# Altium schematic symbol library Nuio_Left_Keyboard_Rev_H.SCHLIB: 69 symbols (part 1 of 2)
Pins are listed as number, name and electrical type; pins without a type are passive.

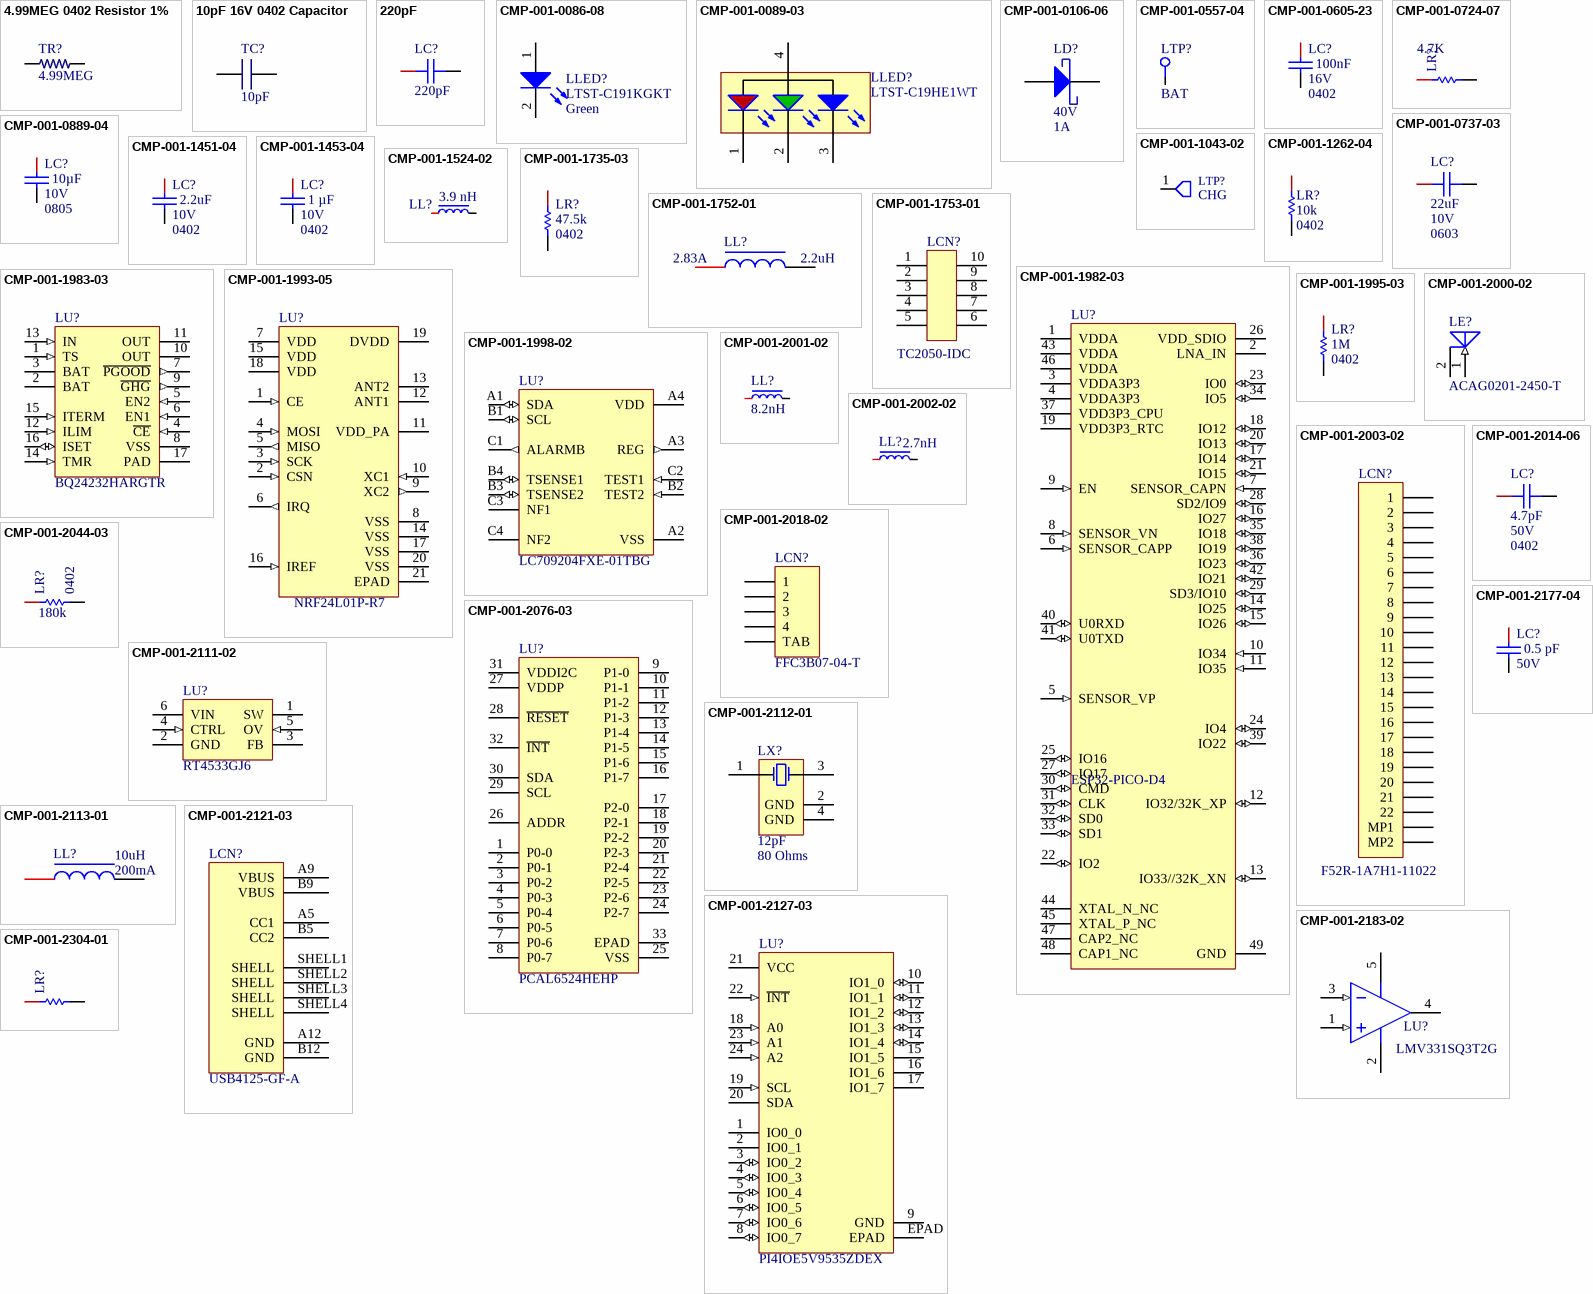
[diagram p0: symbols 4.99MEG 0402 Resistor 1% to CMP-001-2304-01]

## 4.99MEG 0402 Resistor 1%
designator TR?, comment 4.99MEG
4.99MEG 0402 Resistor 1%; Manufacturer: Vishay Dale; Manufacturer Part Number: CRCW04024M99FKEDC; Value: 4.99MR; Max Power Dissipation: 63mW; Temperature Coefficient: 100ppm/°C; Supplier 1: Digikey; RoHS: Yes; Category: Chip SMD Resistors; Stock 1: 96023; Pricing 1: 1=0.1, 10=0.024, 50=0.0152, 100=0.0127, 500=0.00866, 1000=0.00746, 5000=0.00542 (USD); Case/Package: 0402; Case Code (Imperial): 0402; Case Code (Metric): 1005; Min Operating Temperature: -55°C; Max Operating Temperature: 155°C; Packaging: Cut Tape; Tolerance: 1%; Number of Terminations: 2; Series: CRCW-C; RoHS Compliant: Yes; ComponentLink1URL: http://www.vishay.com/docs/28773/crcwce3.pdf?src-supplier=Digikey; ComponentLink1Description: http://www.vishay.com/docs/28773/crcwce3.pdf?src-supplier=Digikey; ComponentLink2URL: https://datasheet.octopart.com/CRCW04024M99FKEDC-Vishay-datasheet-102570912.pdf?src-supplier=Future+Electronics; ComponentLink2Description: https://datasheet.octopart.com/CRCW04024M99FKEDC-Vishay-datasheet-102570912.pdf?src-supplier=Future+Electronics; Supplier Part Number 1: 541-4110-1-ND
footprint RESC0402(1005)_L (Chip Resistor, Body 1.0x0.5mm, IPC High Density)
pins: 1, 2

## 10pF 16V 0402 Capacitor
designator TC?, comment 10pF
10pF 16V 0402 Capacitor; Manufacturer 1: Kemet; Manufacturer Part Number 1: C0402C100K4GACTU; Tolerance: ±10%; Temperature Coefficient: C0G, NP0; Supplier 1: Digi-Key; RoHS: RoHS Compliant; Category: Capacitors; Stock 1: 20000; Pricing 1: 10000=0.0525, 20000=0.0498, 30000=0.048, 50000=0.045, 100000=0.03975 (USD); Packaging: Tape & Reel (TR); Capacitance: 10pF; Voltage - Rated: 16V; Mounting Type: Surface Mount, MLCC; Operating Temperature: -55°C ~ 125°C; Applications: General Purpose; Ratings: -; Package / Case: 0402 (1005 Metric); Size / Dimension: 0.039" L x 0.020" W (1.00mm x 0.50mm); Height - Seated (Max): -; Thickness (Max): 0.022" (0.55mm); Lead Spacing: -; Features: -; Lead Style: -; ComponentLink1URL: http://www.kemet.com/datasheets&C0402C100K4GACTU; ComponentLink1Description: http://www.kemet.com/datasheets&C0402C100K4GACTU; Supplier Part Number 1: 399-11110-2-ND
footprint CAPC0402(1005)_L (Chip Capacitor, Body 1.0x0.5mm, Height 0.7mm, IPC High Density)
pins: 1, 2

## 220pF
designator LC?
220pF 25V 0402 Capacitor; Manufacturer 1: Cal-Chip Electronics; Manufacturer Part Number 1: GMC04CG221J25NT; Description: GMC04CG221J25NT Cal-Chip Capacitor General Use MLCC SMD 0402 COG 220PF 5% 25V; Supplier 1: DigiKey; RoHS: Yes; Stock 1: 10000; Pricing 1: 1=0.1, 10=0.021, 50=0.0144, 100=0.0122, 500=0.00852, 1000=0.00739, 2500=0.0062, 5000=0.00549 (USD); RoHS Compliant: Yes; Supplier Part Number 1: 4713-GMC04CG221J25NTCT-ND
footprint CAPC0402(1005)_L (Chip Capacitor, Body 1.0x0.5mm, Height 0.7mm, IPC High Density)
footprint CAPC0402(1005)_M (Chip Capacitor, Body 1.0x0.5mm, Height 0.7mm, IPC Low Density)
footprint CAPC0402(1005)_N (Chip Capacitor, Body 1.0x0.5mm, Height 0.7mm, IPC Medium Density)
pins: 1, 2
1 alternate drawing of the same symbol

## CMP-001-0086-08
designator LLED?, comment Color: Green  (hidden comment: LTST-C191KGKT)
LED GREEN CLEAR THIN 0603 SMD; Manufacturer: Lite-On Inc; Lens Style/Size: Rectangle with Flat Top, 1.1mm x 0.8mm; Voltage - Forward (Vf) (Typ): 2V; Millicandela Rating: 35mcd; Viewing Angle: 130°; Wavelength - Dominant: 571nm; Wavelength - Peak: 574nm; Current - Test: 20mA; Pin Count: 2; Packaging: Cut Tape (CT); Size / Dimension: 1.60mm L x 0.80mm W; Package / Case: 0603 (1608 Metric); ClassName: *; Mounting Type: Surface Mount; Lens Type: Clear; RoHS: RoHS Compliant; Height: 0.55mm; Pricing 1: 1=0.3, 10=0.238, 100=0.1296, 250=0.0864, 500=0.07344, 1000=0.05616, 2500=0.05076 (USD); Stock 1: 84829; Manufacturer Part Number: LTST-C191KGKT
footprint SM-LED-0603 (0603 LED)
pins: 1 A, 2 K

## CMP-001-0089-03
designator LLED?, comment LTST-C19HE1WT
LED RGB 605/525/470NM DIFF SMD; Manufacturer: Lite-On Inc.; Voltage - Forward (Vf) (Typ): 2.1V Red, 3.35V Green, 3.35V Blue; Lens Style/Size: Rectangle with Flat Top, 1.15mm x 1.60mm; Lens Color: White; Current - Test: 20mA Red, 20mA Green, 20mA Blue; Millicandela Rating: 112.5mcd Red, 281mcd Green, 104mcd Blue; Lens Transparency: Diffused; Wavelength - Dominant: 624nm Red, 525nm Green, 470nm Blue; Wavelength - Peak: 632nm Red, 520nm Green, 468nm Blue; Viewing Angle: 130°; Pin Count: 4; Stock 1: 369310; Mounting Type: Surface Mount; Size / Dimension: 1.60mm L x 1.60mm W; ComponentLink1URL: http://optoelectronics.liteon.com/upload/download/DS22-2008-0044/S_110_LTST-C19HE1WT.pdf; Manufacturer Part Number: LTST-C19HE1WT; RoHS: RoHS Compliant; Part Status: Active; ComponentLink1Description: http://optoelectronics.liteon.com/upload/download/DS22-2008-0044/S_110_LTST-C19HE1WT.pdf; Package / Case: 0606 (1616 Metric); Pricing 1: 1=0.59, 10=0.424, 25=0.3464, 100=0.277, 250=0.23372, 500=0.19912, 1000=0.15583 (USD); Height (Max): 0.35mm; Supplier Device Package: *; Color: Red, Green, Blue (RGB); Features: -; Packaging: Cut Tape (CT); Component Name: LTST-C19HE1WT
footprint LTST-C19HE1WT (low-cost low-height RGB LED)
pins: 1 R, 2 G, 3 B, 4 Anode

## CMP-001-0106-06
designator LD?, comment DC Reverse Voltage Max: 40V  Current Avg Rectified: 1A  (hidden comment: PMEG4010AESBYL)
DIODE SCHOTTKY 40V 1A SOD993; Voltage Forward Max: 505mV @ 1A; Diode Type: Schottky
footprint PMEG4010AESBYL-Footprint-1
pins: 1 K, 2 A

## CMP-001-0557-04
designator LTP?, comment BAT  (no BOM)
Test Point- Current one
footprint Pogo-Testpoint (Test Point - Top Pad Only)
pins: 1

## CMP-001-0605-23
designator LC?, comment Package (Imperial): 0402  Voltage (Rated): 16V  Capacitance: 100nF  (hidden comment: CAP CER 0.1UF 16V X5R 0402)
±10% 16V Ceramic Capacitor X5R 0402 (1005 Metric); Manufacturer: Taiyo Yuden; Manufacturer Part Number: EMK105BJ104KV-F; Package (Metric): 1005; Temperature (Max): 85°C; Temperature (Min): -55°C; Height: 550µm; Supplier: Digi-Key; Supplier Part Number: 587-1226-1-ND; Tolerance: 10%; Dielectric Material: Ceramic; Temperature Coefficient: X5R; Width: 500µm; Length: 1mm; Mounting Type: SMD
footprint CAPC0402(1005)_L (Chip Capacitor, Body 1.0x0.5mm, Height 0.7mm, IPC High Density)
footprint CAPC0402(1005)_M (Chip Capacitor, Body 1.0x0.5mm, Height 0.7mm, IPC Low Density)
footprint CAPC0402(1005)_N (Chip Capacitor, Body 1.0x0.5mm, Height 0.7mm, IPC Medium Density)
pins: 1, 2

## CMP-001-0724-07
designator LR?, comment 4.7K
SMD Chip Resistor, 4.7 kOhm, ± 1%, 62.5 mW, 0402 [1005 Metric], Thick Film, General Purpose; Manufacturer 1: Yageo; Manufacturer Part Number 1: RC0402FR-074K7L; Voltage Rating (DC): 50V; Power Rating: 62.5mW; Value: 4.7kR; Temperature Coefficient: 100ppm/°C; Max Power Dissipation: 63mW; Supplier 1: Digikey; RoHS: Yes; Category: Chip SMD Resistors; Stock 1: 6013334; Pricing 1: 1=0.1, 10=0.015, 50=0.0088, 100=0.0073, 500=0.00488, 1000=0.00417, 5000=0.00297 (USD); Case/Package: 0402; Pins: 2; Case Code (Imperial): 0402; Case Code (Metric): 1005; Min Operating Temperature: -55°C; Max Operating Temperature: 155°C; Tolerance: 1%; Voltage Rating: 50V; Packaging: Tape and Reel; Resistor Type: Thick Film; Termination: SMD/SMT; Features: Moisture Resistant; Series: RC; Number of Terminations: 2; Resistance Tolerance: 1%; Construction: Rectangular; Length: 1mm; Width: 0.5mm; Depth: 0.5mm; Reach SVHC Compliant: No; Military Standard: Not; Lead Free: Lead Free; RoHS Compliant: Yes; ComponentLink1URL: https://datasheet.ciiva.com/15215/getdatasheetpartid-328119-15215035.pdf?src-supplier=Verical; ComponentLink1Description: https://datasheet.ciiva.com/15215/getdatasheetpartid-328119-15215035.pdf?src-supplier=Verical; ComponentLink2URL: https://datasheet.ciiva.com/7850/1018594-7850022.pdf?src-supplier=Element14; ComponentLink2Description: https://datasheet.ciiva.com/7850/1018594-7850022.pdf?src-supplier=Element14; ComponentLink3URL: https://datasheet.ciiva.com/7850/1018594-7850023.pdf?src-supplier=Element14; ComponentLink3Description: https://datasheet.ciiva.com/7850/1018594-7850023.pdf?src-supplier=Element14; ComponentLink4URL: https://datasheet.ciiva.com/22661/1686128-22661342.pdf?src-supplier=Element14; ComponentLink4Description: https://datasheet.ciiva.com/22661/1686128-22661342.pdf?src-supplier=Element14; Supplier Part Number 1: 311-4.7KLRCT-ND
footprint RESC0402(1005)_L (Chip Resistor, Body 1.0x0.5mm, IPC High Density)
footprint RESC0402(1005)_N (Chip Resistor, Body 1.0x0.5mm, IPC Medium Density)
footprint RESC0402(1005)_M (Chip Resistor, Body 1.0x0.5mm, IPC Low Density)
pins: 1, 2

## CMP-001-0737-03
designator LC?, comment 22uF  Voltage Rating (DC): 10V  Case Code (Imperial): 0603
CAP CER 22UF 10V 20% 0603; Dielectric: X5R; Max Operating Temperature: 85°C; Termination: SMD/SMT; Case Code (Metric): 1608; Width: 0.8mm; Length: 1.6mm; Packaging: Tape and Reel; Capacitance: 22uF; Tolerance: 20%; Mount: Surface Mount; Weight: 0.000222oz; Package Quantity: 4000; Min Operating Temperature: -55°C; Lead Free: Lead Free; REACH SVHC: No SVHC; Thickness: 0.039inch; Depth: 0.8mm; Voltage Rating: 10V; Material: Ceramic; Height: 0.8mm; Case/Package: 0603
footprint CAPC0603(1608)_M (Chip Capacitor, Body 1.6x0.8mm, Height 1.0mm, IPC Low Density)
footprint CAPC0603(1608)_N (Chip Capacitor, Body 1.6x0.8mm, Height 1.0mm, IPC Medium Density)
footprint CAPC0603(1608)_L (Chip Capacitor, Body 1.6x0.8mm, Height 1.0mm, IPC High Density)
pins: 1, 2
1 alternate drawing of the same symbol

## CMP-001-0889-04
designator LC?, comment Voltage (Rated): 10V  Package (Imperial): 0805  Capacitance: 10µF  (hidden comment: CAP CER 10UF 10V X7R 0805)
10µF ±10% 10V Ceramic Capacitor X7R 0805 (2012 Metric); Manufacturer Part Number: GRM21BR71A106KA73K; Package (Metric): 2012; Voltage Rating: 10V; Length: 2mm; Mounting Type: SMD; Height: 1.4mm; Mount: Surface Mount; Case Code (Metric): 2012; Min Operating Temperature: -55°C; Ratings: AEC-Q200; Width: 1.25mm; Packaging: Tape and Reel; Tolerance: 10%; Temperature Coefficient: X7R; Case Code (Imperial): 0805; Max Operating Temperature: 125°C; Case/Package: 0805; Dielectric Material: Ceramic
footprint CAPC0805(2012)_L_v2 (Chip Capacitor, Body 2.0x1.2mm, Height 1.55mm, IPC High Density)
footprint CAPC0805(2012)_L (Chip Capacitor, Body 2.0x1.2mm, Height 1.55mm, IPC High Density)
pins: 1, 2

## CMP-001-1043-02
designator LTP?, comment CHG  (no BOM)
MTK-TP20MIL
footprint MTK-TESTPOINT-20
pins: 1 TP

## CMP-001-1262-04
designator LR?, comment Resistance: 10k  Package (Imperial): 0402  (hidden comment: RES SMD 10K OHM 1% 1/16W 0402)
10 kOhms ±1% 0.063W, 1/16W Chip Resistor 0402 (1005 Metric) Anti-Sulfur, Automotive AEC-Q200, Moisture Resistant Thin Film; Manufacturer: Yageo; Manufacturer Part Number: AT0402FRE0710KL; Max Power Dissipation: 63mW; Temperature Coefficient: 50ppm/°C; Width: 0.02inch; Case Code (Metric): 1005; Height: 0.014inch; Min Operating Temperature: -55°C; Supplier: Digi-Key; Tolerance: 1%; Features: Moisture Resistant,Automotive AEC-Q200,Anti-Sulfur; Length: 0.039inch; Number of Terminations: 2; Case/Package: 0402; Packaging: Tape and Reel; Composition: Thin Film; Supplier Part Number: YAG2104CT-ND; Max Operating Temperature: 155°C
footprint RESC0402_YAGEO (Chip Resistor, Body 1.0x0.5mm, IPC High Density)
pins: 1, 2

## CMP-001-1451-04
designator LC?, comment Package (Imperial): 0402  Voltage (Rated): 10V  Capacitance: 2.2uF  (hidden comment: CAP CER 2.2UF 10V X5R 0402)
±20% 10V Ceramic Capacitor X5R 0402 (1005 Metric); Manufacturer: KEMET; Manufacturer Part Number: C0402C225M8PACTU; Width: 0.5mm; Height: 0.5mm; Tolerance: 20%; Voltage Rating (DC): 10V; Supplier: Digi-Key; Depth: 0.5mm; Dielectric: X5R; Supplier Part Number: 399-7375-1-ND; Contact Plating: Tin,Matte; Termination: SMD/SMT; Thickness: 0.022inch; Dielectric Material: Ceramic; Temperature Coefficient: X5R; Length: 1mm; Max Operating Temperature: 85°C; Min Operating Temperature: -55°C; Mount: Surface Mount; Lead Free: Lead Free; Series: C
footprint CAPC0402(1005)_L (Chip Capacitor, Body 1.0x0.5mm, Height 0.7mm, IPC High Density)
pins: 1, 2

## CMP-001-1453-04
designator LC?, comment Package (Imperial): 0402  Voltage (Rated): 10V  Capacitance: 1 µF  (hidden comment: CAP CER 1UF 10V X5R 0402)
±20% 10V Ceramic Capacitor X5R 0402 (1005 Metric); Manufacturer Part Number: CC0402MRX5R6BB105; Manufacturer: Yageo; Supplier: Digi-Key; Tolerance: ±20%; Supplier Part Number: 311-1732-1-ND; Temperature Coefficient: X5R; Height: 0.55mm
footprint CAPC0402(1005)_L (Chip Capacitor, Body 1.0x0.5mm, Height 0.7mm, IPC High Density)
pins: 1, 2

## CMP-001-1524-02
designator LL?, comment Inductance: 3.9 nH  (hidden comment: FIXED IND 3.9NH 0402)
Inductor RF Chip 0.0039uH 0.1nH 100MHz 8Q-Factor Air 0.75A 0.14Ohm DCR 0402 T/R; Manufacturer Part Number: Murata Electronics; Manufacturer: LQG15HS3N9B02D; Current: 750 mA; DC Resistance (DCR): 140mOhm Max; Inductance Frequency: 100 MHz; Tolerance: ±0.1nH; Height: 0.55mm; Package: 0402 (1005 Metric); RoHS Compliant: Yes; Size / Dimension: 0.039" L x 0.020" W (1.00mm x 0.50mm)
footprint FP-LQG15HH_02-IPC_C
pins: 1, 2

## CMP-001-1735-03
designator LR?, comment Resistance: 47.5k  Package (Imperial): 0402  (hidden comment: RES 47.5K OHM 1% 1/16W 0402)
47.5 kOhms ±1% 0.063W, 1/16W Chip Resistor 0402 (1005 Metric) Moisture Resistant Thick Film; Manufacturer: Panasonic Electronic Components; Manufacturer Part Number: ERA-2ARB6041X; Temperature Coefficient: 100ppm/°C; Max Power Dissipation: 63mW; Power Rating: 62.5mW; Voltage Rating: 50V; Case Code (Metric): 1005; Min Operating Temperature: -55°C; Resistance Tolerance: 1%; Width: 0.02inch; REACH SVHC: No SVHC; Case/Package: 0402; Size Code: 0402; Depth: 0.5mm; Series: RC; Number of Terminations: 2; Packaging: Tape and Reel; Termination: SMD/SMT; Case Code (Imperial): 0402; Resistor Type: Thick Film; Tolerance: 1%; Height: 0.016inch; Construction: Rectangular; Lead Free: Lead Free; Features: Moisture Resistant; Length: 1mm; Military Standard: Not; Voltage Rating (DC): 50V; Max Operating Temperature: 155°C; RoHS Compliant: Yes; Composition: Thin Film
footprint RESC0402(1005)_L (Chip Resistor, Body 1.0x0.5mm, IPC High Density)
pins: 1, 2

## CMP-001-1752-01
designator LL?, comment Inductance: 2.2uH  Current Rating (Amps): 2.83A  (hidden comment: FIXED IND 2.2UH 2.83A 74MOHM SMD)
2.2 µH Shielded Wirewound Inductor 2.83 A 74mOhm Max Nonstandard -; Manufacturer Product Number: VLS3012CX-2R2M-1; Manufacturer: TDK Corporation; Inductance Frequency - Test: 1MHz; Size / Dimension: 3mm x 3mm; DC Resistance (DCR): 74mOhm Max; Mounting Type: Surface Mount; RoHS Compliant: Yes
footprint FIXED IND 2.2UH 2.83A 74MOHM SMD
pins: 1, 2
1 alternate drawing of the same symbol

## CMP-001-1753-01
designator LCN?, comment TC2050-IDC  (no BOM)
Adapter Cbl Plug Of Nails 10PIN; Package Quantity: 1; Series: Plug-Of-Nails™; RoHS Compliant: Yes
footprint TC2050-IDC (Tag-Connect 10-Pin (With Legs))
pins: 1, 2, 3, 4, 5, 6, 7, 8, 9, 10

## CMP-001-1982-03
designator LU?, comment ESP32-PICO-D4
SoC RF SIP Module Dual Core MCU 2, 4GHz; Manufacturer 1: Espressif Systems; Interface: I2C,SPI,I2S,UART; Data Rate: 150Mbps; Sensitivity: -97dBm; Memory Size: 4MB; Memory Format: FLASH; Operating Frequency: 2.4 GHz to 2.5 GHz; Output Power (dBm): 20dBm; Operating Supply Voltage: 3.6V; RAM Size: 520KB; Data Bus Width: 32b; Clock Frequency: 40MHz; Number of ADC Channels: 10; Bandwidth: 72MHz; Min Supply Voltage: 2.7V; Nominal Supply Current: 80mA; Number of GPIO: 22; Supplier 1: Digikey; Manufacturer Part Number 1: ESP32-PICO-D4; RoHS: No; Category: RF Receivers, Transceivers; Stock 1: 3196; Pricing 1: 1=4.5 (USD); Case/Package: QFN; Min Operating Temperature: -40°C; Max Operating Temperature: 85°C; Series: ESP32; Package Quantity: 2000; Max Supply Voltage: 3.6V; Length: 7mm; Width: 7mm; Height: 0.94mm; ComponentLink1URL: https://www.espressif.com/sites/default/files/documentation/esp32-pico-d4_datasheet_en.pdf?src-supplier=Digikey; ComponentLink1Description: https://www.espressif.com/sites/default/files/documentation/esp32-pico-d4_datasheet_en.pdf?src-supplier=Digikey; ComponentLink2URL: https://datasheet.octopart.com/ESP32-PICO-D4-Espressif-Systems-datasheet-165560559.pdf?src-supplier=TME; ComponentLink2Description: https://datasheet.octopart.com/ESP32-PICO-D4-Espressif-Systems-datasheet-165560559.pdf?src-supplier=TME; Supplier Part Number 1: 1904-1029-1-ND
footprint ESP32-PICO-D4
pins: 1 VDDA (power), 2 LNA_IN, 3 VDDA3P3 (power), 4 VDDA3P3 (power), 5 SENSOR_VP (in), 6 SENSOR_CAPP (in), 7 SENSOR_CAPN (in), 8 SENSOR_VN (in), 9 EN (in), 10 IO34 (in), 11 IO35 (in), 12 IO32/32K_XP (io), 13 IO33//32K_XN (io), 14 IO25 (io), 15 IO26 (io), 16 IO27 (io), 17 IO14 (io), 18 IO12 (io), 19 VDD3P3_RTC, 20 IO13 (io), 21 IO15 (io), 22 IO2 (io), 23 IO0 (io), 24 IO4 (io), 25 IO16 (io), 26 VDD_SDIO (power), 27 IO17 (io), 28 SD2/IO9 (io), 29 SD3/IO10 (io), 30 CMD (io), 31 CLK (io), 32 SD0 (io), 33 SD1 (io), 34 IO5 (io), 35 IO18 (io), 36 IO23 (io), 37 VDD3P3_CPU (power), 38 IO19 (io), 39 IO22 (io), 40 U0RXD (io), 41 U0TXD (io), 42 IO21 (io), 43 VDDA (power), 44 XTAL_N_NC, 45 XTAL_P_NC, 46 VDDA (power), 47 CAP2_NC, 48 CAP1_NC, 49 GND (power)

## CMP-001-1983-03
designator LU?, comment BQ24232HARGTR
USB Friendly 0.5A Li-ion charger with power-Path, 10.5V OVP 16-VQFN -5 to 125; Manufacturer 1: Texas Instruments; Number of Cells: 1; Fault Protection: Over Voltage,Over Temperature,Short Circuit,Reverse Current; Max Charge Current: 500mA; Battery Pack Voltage: 4.2V; Max Supply Voltage: 10.2V; Battery Chemistry: LITHIUM-ION; Supplier 1: Digikey; Manufacturer Part Number 1: BQ24232HARGTR; RoHS: Yes; Category: Battery Management; Stock 1: 10178; Pricing 1: 1=2.63, 10=2.361, 25=2.2272, 100=1.8974, 250=1.78164, 500=1.55894, 1000=1.29169 (USD); Mounting Technology: Surface Mount; Case/Package: QFN; Min Operating Temperature: -5°C; Max Operating Temperature: 125°C; Interface: USB; Packaging: Cut Tape; Series: -; Lead Free: Lead Free; RoHS Compliant: Yes; ComponentLink1URL: http://www.ti.com/lit/ds/symlink/bq24232ha.pdf?src-supplier=Digikey; ComponentLink1Description: http://www.ti.com/lit/ds/symlink/bq24232ha.pdf?src-supplier=Digikey; ComponentLink2URL: http://www.ti.com/general/docs/suppproductinfo.tsp?distId=10&amp;gotoUrl=http%3A%2F%2Fwww.ti.com%2Flit%2Fgpn%2Fbq24232ha&src-supplier=Digikey; ComponentLink2Description: http://www.ti.com/general/docs/suppproductinfo.tsp?distId=10&amp;gotoUrl=http%3A%2F%2Fwww.ti.com%2Flit%2Fgpn%2Fbq24232ha&src-supplier=Digikey; Supplier Part Number 1: 296-49554-1-ND
footprint BQ24232HARGTR
pins: 1 TS (in), 2 BAT, 3 BAT, 4 ~{CE} (in), 5 EN2 (in), 6 EN1 (in), 7 ~{PGOOD} (out), 8 VSS, 9 ~{GHG} (out), 10 OUT, 11 OUT, 12 ILIM (in), 13 IN (in), 14 TMR (in), 15 ITERM (in), 16 ISET (io), 17 PAD

## CMP-001-1993-05
designator LU?, comment NRF24L01P-R7
IC RF TXRX ISM>1GHZ 20VFQFN; Manufacturer: Nordic Semiconductor ASA; Frequency: 2.4GHz; Max Supply Voltage: 3.6V; Current - Receiving: 13.5mA; Current - Transmitting: 11.3mA; Data Rate: 2Mbps; Output Power (dBm): 0dBm; Interface: SPI; Sensitivity: -94dBm; Length: 4mm; Packaging: Tape and Reel; Series: -; Case/Package: QFN; Package Quantity: 1500; Depth: 4mm; Min Operating Temperature: -40°C; Manufacturer Part Number: NRF24L01P-R7; Mount: Surface Mount; Max Operating Temperature: 85°C
footprint QFN50P400X400X95_HS-21N (QFN, 20-Leads, Body 4.00x4.00mm, Pitch 0.50mm, Thermal Pad 2.60x2.60mm, IPC Medium Density)
pins: 1 CE (in), 2 CSN (in), 3 SCK (in), 4 MOSI (in), 5 MISO (out), 6 IRQ (out), 7 VDD (power), 8 VSS (power), 9 XC2 (out), 10 XC1 (in), 11 VDD_PA (power), 12 ANT1, 13 ANT2, 14 VSS (power), 15 VDD (power), 16 IREF (in), 17 VSS (power), 18 VDD (power), 19 DVDD (power), 20 VSS (power), 21 EPAD (power)

## CMP-001-1995-03
designator LR?, comment Resistance: 1M  Case/Package: 0402  (hidden comment: RES 1M OHM 1% 1/16W 0402)
1 MOhms ±1% 0.063W, 1/16W Chip Resistor 0402 (1005 Metric) Moisture Resistant Thick Film; Manufacturer: YAGEO; Manufacturer Part Number: RC0402FR-071ML; Power Rating: 63mW; Voltage Rating: 50V; Temperature Coefficient: 100ppm/°C; Termination: SMD/SMT; Technology: THICK FILM; Features: Moisture Resistant; Depth: 0.5mm; RoHS Compliant: Yes; Military Standard: Not; Series: RC; Construction: Rectangular; Resistance Tolerance: 1%; Size Code: 0402; Length: 1mm; Resistor Type: Thick Film; Min Operating Temperature: -55°C; Max Power Dissipation: 63mW; Height: 0.32mm; Lead Free: Lead Free; Max Operating Temperature: 155°C; Tolerance: 1%; REACH SVHC: Unknown
footprint RESC0402(1005)_L (Chip Resistor, Body 1.0x0.5mm, IPC High Density)
pins: 1, 2

## CMP-001-1998-02
designator LU?, comment LC709204FXE-01TBG
IC FUEL GAUGE LI-ION 1C 12WLCSP; Manufacturer: onsemi; Number of Cells: 1; Interface: I2C; Manufacturer Part Number: LC709204FXE-01TBG; Mount: Surface Mount; Min Operating Temperature: -40°C; Max Operating Temperature: 85°C
footprint BGA12C40P4X3_191X148X51 (BGA, 12-Leads, Body 1.91x1.48mmx0.51mm, Pitch 0.40mm)
pins: A1 SDA (io), A2 VSS (power), A3 REG (out), A4 VDD (power), B1 SCL (io), B2 TEST2 (in), B3 TSENSE2 (io), B4 TSENSE1 (io), C1 ALARMB (out), C2 TEST1 (in), C3 NF1, C4 NF2

## CMP-001-2000-02
designator LE?, comment ACAG0201-2450-T
RF ANT 2.4GHZ CHIP SOLDER SMD; Manufacturer: Abracon LLC; VSWR: 2; Number of Bands: 1; RF Family: Bluetooth, General ISM, WiFi; Frequency Group: UHF; Mounting Type: SMD; Manufacturer Part Number: ACAG0201-2450-T; Frequency: 2.4GHz
footprint ACAG0201-2450-T
pins: 1 INPUT (in), 2 GND (power)

## CMP-001-2001-02
designator LL?, comment Inductance: 8.2nH  (hidden comment: FIXED IND 8.2NH 550MA 240MOHM SM)
8.2 nH Unshielded Multilayer Inductor 550 mA 240mOhm Max 0402 (1005 Metric); Manufacturer Part Number: LQG15HS8N2J02D; Manufacturer: Murata Electronics; DC Resistance (DCR): 240mR; Core Material: Air; Test Frequency: 100MHz; Self Resonant Frequency: 3.7GHz; Tolerance: 5%; Series: LQG15; Case/Package: 0402; Shielding: Unshielded; Mount: Surface Mount; Ratings: AEC-Q200; Max Operating Temperature: 125°C; Min Operating Temperature: -55°C; RoHS Compliant: Yes
footprint Inductor0402(1005)_L (Chip Resistor, Body 1.0x0.5mm, IPC High Density)
pins: 1, 2

## CMP-001-2002-02
designator LL?, comment Inductance: 2.7nH  (hidden comment: FIXED IND 2.7NH 800MA 150MOHM SM)
2.7 nH Unshielded Multilayer Inductor 800 mA 150mOhm Max 0402 (1005 Metric); Manufacturer Part Number: LQG15HS2N7S02D; Manufacturer: Murata Electronics; Test Frequency: 100MHz; Q Factor: 8; Rated Current-Max: 300mA; DC Resistance (DCR): 150mR; Core Material: Air; Self Resonant Frequency: 6GHz; Series: LQG15HS; RoHS Compliant: Yes; Width: 0.02inch; Height - Seated (Max): 0.022inch; Termination: SMD/SMT; Height: 0.5mm; Shielding: Unshielded; Min Operating Temperature: -55°C; Current Rating: 300mA; Case/Package: 0402; DC Current: 300mA; Depth: 0.55mm; Lead Free: Lead Free; Radiation Hardening: No; Mount: Surface Mount; Max DC Current: 300mA; Length: 1mm; Military Standard: Not; Max Operating Temperature: 125°C
footprint Inductor0402(1005)_L (Chip Resistor, Body 1.0x0.5mm, IPC High Density)
pins: 1, 2

## CMP-001-2003-02
designator LCN?, comment F52R-1A7H1-11022
FLEX CONNECTOR, 1.00MM PITCH, HE; Manufacturer: Amphenol ICC (FCI); Voltage Rating: 50V; Current Rating: 0.5A; Flat Flex Type: FFC, FPC; Number of Positions: 22; Manufacturer Part Number: F52R-1A7H1-11022; Mounting Type: SND, Right Angle
footprint F52R-1A7H1-11022
pins: 1, 2, 3, 4, 5, 6, 7, 8, 9, 10, 11, 12, 13, 14, 15, 16, 17, 18, 19, 20, 21, 22, MP1, MP2

## CMP-001-2014-06
designator LC?, comment 4.7pF  Voltage (Rated): 50V  Package (Imperial): 0402
CAP CER 4.7pF 50V 5% NP0 0402; Dielectric Material: Ceramic; Package (Metric): 1005; Length: 1mm; Tolerance: 5%; Capacitance: 4.7pF; Width: 500µm; Dielectric: Ceramic; Mounting Type: SMD; Temperature Coefficient: NP0
footprint CAPC0402(1005)_L (Chip Capacitor, Body 1.0x0.5mm, Height 0.7mm, IPC High Density)
footprint CAPC0402(1005)_M (Chip Capacitor, Body 1.0x0.5mm, Height 0.7mm, IPC Low Density)
footprint CAPC0402(1005)_N (Chip Capacitor, Body 1.0x0.5mm, Height 0.7mm, IPC Medium Density)
pins: 1, 2
1 alternate drawing of the same symbol

## CMP-001-2018-02
designator LCN?, comment FFC3B07-04-T
CONN, FPC, 4POS, 1ROW, 1MM, R/A SMT; Pitch Spacing: 1mm; No. of Contacts: 4Contacts; Gender: Receptacle; Product...; Manufacturer: GCT; Locking Feature: Slide Lock; Connector/Contact Type: Contacts, Bottom; Mating Cycles: 20; Number of Positions: 4; Voltage Rating: 50V; Current Rating: 0.4A; Contact Finish: Tin; Mounting Type: SM R/A; Pitch: 1mm
footprint FFC3B07-04-T
pins: 0 TAB, 1, 2, 3, 4

## CMP-001-2044-03
designator LR?, comment Package (Imperial): 0402  (hidden comment: 180k)
RES 180K OHM 1% 1/16W 0402; Power: 63mW; Temperature Coefficient: 100ppm/°C; Package (Metric): 1005; Min Operating Temperature: -55°C; Max Operating Temperature: 155°C; Width: 500µm; Termination: SMD/SMT; Tolerance: 1%; Resistance: 180k; Height: 400µm; Length: 1mm; Operating Temperature: -55°C ~ 155°C
footprint RESC0402(1005)_M (Chip Resistor, Body 1.0x0.5mm, IPC Low Density)
simulation model RESISTOR (Resistor)
footprint RESC0402(1005)_N (Chip Resistor, Body 1.0x0.5mm, IPC Medium Density)
footprint RESC0402(1005)_L (Chip Resistor, Body 1.0x0.5mm, IPC High Density)
pins: 1, 2

## CMP-001-2076-03
designator LU?, comment PCAL6524HEHP
Ultra low-voltage translating 24-bit Fm+ I²C-bus/SMBus I/O expander; Interface: I2C; Number of I/Os: 24; Frequency: 1MHz; RoHS Compliant: Yes; Mount: Surface Mount; Packaging: Tape and Reel; Min Operating Temperature: -40°C; Series: -; Max Operating Temperature: 85°C
footprint QFN50P500X500X60_HS-33N (QFN, 32-Leads, Body 5.00x5.00mm, Pitch 0.50mm, Thermal Pad 3.00x3.00mm, IPC Medium Density)
pins: 1 P0-0, 2 P0-1, 3 P0-2, 4 P0-3, 5 P0-4, 6 P0-5, 7 P0-6, 8 P0-7, 9 P1-0, 10 P1-1, 11 P1-2, 12 P1-3, 13 P1-4, 14 P1-5, 15 P1-6, 16 P1-7, 17 P2-0, 18 P2-1, 19 P2-2, 20 P2-3, 21 P2-4, 22 P2-5, 23 P2-6, 24 P2-7, 25 VSS, 26 ADDR, 27 VDDP, 28 ~{RESET}, 29 SCL, 30 SDA, 31 VDDI2C, 32 ~{INT}, 33 EPAD

## CMP-001-2111-02
designator LU?, comment RT4533GJ6
IC LED DRVR RGLTR PWM TSOT23-6; Number of Outputs: 1; Topology: Boost; Frequency: 1.1MHz; Output Voltage: 36.5V; Output Current per Channel: 1.2A; Max Supply Voltage: 5.5V; Dimming: PWM; Max Operating Temperature: 85°C; Packaging: Cut Tape; Min Operating Temperature: -40°C; Mounting Technology: Surface Mount; Case/Package: SOT-23-6
footprint RT4533GJ6 (IC LED DRVR RGLTR PWM TSOT23-6)
pins: 1 SW, 2 GND (power), 3 FB, 4 CTRL (in), 5 OV (in), 6 VIN (power)

## CMP-001-2112-01
designator LX?, comment Load Capacitance: 12pF  ESR: 80 Ohms  (hidden comment: ECS-160-12-33-AGN-TR3)
CRYSTAL 16.0000MHZ 12PF SMD; Manufacturer: ECS Inc.; Frequency: 16MHz; Frequency Stability: +-30ppm; Frequency Tolerance: +-25ppm; Manufacturer Part Number: ECS-160-12-33-AGN-TR3; Package/Case: 4-SMD; Height: 0.8mm
footprint ECS-160-12-33-AGN-TR3 (CRYSTAL 16.0000MHZ 12PF SMD)
pins: 1 OSC1, 2 GND, 3 OSC2, 4 GND

## CMP-001-2113-01
designator LL?, comment value 10uH  Saturation Current: 200mA  (hidden comment: FIXED IND 10UH 300MA 680MOHM SMD)
10 µH Shielded Multilayer Inductor 300 mA 680mOhm 0805 (2012 Metric); Manufacturer Part Number: MLZ2012M100HT000; Test Frequency: 2MHz; Self Resonant Frequency: 40MHz; Tolerance: 20%; DC Resistance (DCR): 680mR; Core Material: Ferrite; Current Rating: 300mA; Max Operating Temperature: 125°C; Max DC Current: 300mA; Lead Free: Lead Free; Min Operating Temperature: -55°C; Length: 0.079inch; RoHS Compliant: Yes; Height - Seated (Max): 0.057inch; Width: 0.049inch; Shielding: Shielded; Series: MLZ; Case/Package: 0805; Height: 1.25mm
footprint FIXED IND 10UH 300MA 680MOHM SMD (10 µH Shielded Multilayer Inductor 300 mA 680mOhm 0805 (2012 Metric))
pins: 1, 2
1 alternate drawing of the same symbol

## CMP-001-2121-03
designator LCN?, comment USB4125-GF-A
USB-C (USB TYPE-C) Receptacle Connector 24 (6+18 Dummy) Position Surface Mount, Right Angle; Through Hole; Manufacturer: GCT; Mating Cycles: 20000; Current Rating: 3A; Shielding: Shielded; Material Flammability: UL94 V-0; Voltage: 20V; Connector Type: USB-C; Number of Contacts: 24 (6 + 18 Dummy); Gender: Receptacle; Series: USB4125; Contact Finish: Gold; Shell/Shielding Material: Steel, Stainless
footprint USB4125-GF-A (CONN RCPT TYPE C 6P SMD RA)
pins: A5 CC1, A9 VBUS, A12 GND, B5 CC2, B9 VBUS, B12 GND, SHELL1 SHELL, SHELL2 SHELL, SHELL3 SHELL, SHELL4 SHELL

## CMP-001-2127-03
designator LU?, comment PI4IOE5V9535ZDEX
IC I/o Expander 16B I2C 24TQFN; Manufacturer 1: Diodes; Number of I/Os: 16; Frequency: 400kHz; Supplier 1: Digikey; Manufacturer Part Number 1: PI4IOE5V9535ZDEX; RoHS: Yes; Stock 1: 53776; Pricing 1: 1=1.55, 10=1.392, 25=1.3128, 100=1.1187, 250=1.0504, 500=0.9191, 1000=0.76154 (USD); Mounting Technology: Surface Mount; Min Operating Temperature: -40°C; Max Operating Temperature: 85°C; Interface: I2C; Packaging: Cut Tape; Series: -; RoHS Compliant: Yes; ComponentLink1URL: https://media.digikey.com/pdf/Data%20Sheets/Diodes%20PDFs/PI4IOE5V9539.pdf?src-supplier=Digikey; ComponentLink1Description: https://media.digikey.com/pdf/Data%20Sheets/Diodes%20PDFs/PI4IOE5V9539.pdf?src-supplier=Digikey; ComponentLink2URL: https://datasheet.octopart.com/PI4IOE5V9535ZDEX-Diodes-Inc.-datasheet-160666369.pdf?src-supplier=SHENGYU+ELECTRONICS; ComponentLink2Description: https://datasheet.octopart.com/PI4IOE5V9535ZDEX-Diodes-Inc.-datasheet-160666369.pdf?src-supplier=SHENGYU+ELECTRONICS; Supplier Part Number 1: PI4IOE5V9535ZDEXDICT-ND
footprint PI4IOE5V9535ZDEX (I/O Expander 16 I²C 400 kHz 24-TQFN (4x4))
pins: 1 IO0_0, 2 IO0_1, 3 IO0_2 (io), 4 IO0_3 (io), 5 IO0_4 (io), 6 IO0_5 (io), 7 IO0_6 (io), 8 IO0_7 (io), 9 GND, 10 IO1_0 (io), 11 IO1_1 (io), 12 IO1_2 (io), 13 IO1_3 (io), 14 IO1_4 (io), 15 IO1_5, 16 IO1_6, 17 IO1_7, 18 A0 (in), 19 SCL (in), 20 SDA, 21 VCC, 22 ~{INT} (in), 23 A1 (in), 24 A2 (in), EPAD

## CMP-001-2177-04
designator LC?, comment Capacitance: 0.5 pF  Voltage - Rated: 50V  (hidden comment: CAP CER 0.5PF 50V C0G/NP0 0402)  (no BOM)
0.5 pF ±0.1pF 50V Ceramic Capacitor C0G, NP0 0402 (1005 Metric); Manufacturer Part Number: QSCF500Q0R5B1GV001T; Manufacturer: Johanson Technology Inc.; Temperature Coefficient: C0G, NP0; Operating Temperature: -55°C ~ 125°C; Tolerance: ±0.1pF; Applications: RF, Microwave, High Frequency; Features: High Q, Low Loss, Ultra Low ESR; RoHS Compliant: Yes; Size / Dimension: 0.040" L x 0.020" W (1.02mm x 0.51mm); Thickness (Max): 0.024" (0.61mm)
footprint CAPC0402(1005)_L (Chip Capacitor, Body 1.0x0.5mm, Height 0.7mm, IPC High Density)
pins: 1, 2

## CMP-001-2183-02
designator LU?, comment LMV331SQ3T2G
LMV Series 5 V 1 nA SMT Single General Purpose, Low Voltage Comparator - SC-70; Manufacturer: onsemi; Natural Thermal Resistance: 280°C/W; Output Current: 84mA; Voltage Gain: 93.98dB; Number of Channels: 1; Operating Supply Voltage: 3V; Propagation Delay: 1.5us; Min Supply Voltage: 2.7V; Supply Current: 120uA; Max Input Current: 1nA; Max Supply Voltage: 5V; Input Offset Voltage (Vos): 9mV; Quiescent Current: 150uA; Radiation Hardening: No; Type: General Purpose; Lead Free: Lead Free; Case/Package: SC; Min Operating Temperature: -40°C; Reach SVHC Compliant: No; Number of Elements: 1; Width: 1.35mm; Halogen Free: Halogen Free; Technology: CMOS; Package Quantity: 3000; Series: -; Pins: 5; Max Supply Current: 120uA; Length: 2.2mm; RoHS Compliant: Yes; Packaging: Tape and Reel; Height: 1mm; Input Bias Current: 1nA; Manufacturer Part Number: LMV331SQ3T2G; Max Operating Temperature: 85°C
footprint ONSC-SC70-5-419A-02_K_L (SOT23, 5-Leads, Body 2.2x1.35mm, Pitch 0.65mm, IPC High Density)
pins: 1 IN+ (in), 2 GND (power), 3 IN- (in), 4 OUT (oc), 5 VCC (power)

## CMP-001-2304-01
designator LR?, comment 13  (value not drawn)
SMD Chip Resistor, 13 Ohm, ± 1%, 63 mW, 0402 [1005 Metric], Thick Film, General Purpose; Manufacturer 1: Yageo; Manufacturer Part Number 1: RC0402FR-0713RL; Value: 13R; Power Rating: 62.5mW; Voltage Rating: 50V; Max Power Dissipation: 63mW; Temperature Coefficient: 100ppm/°C; Supplier 1: Digikey; RoHS: Yes; Category: Chip SMD Resistors; Stock 1: 239263; Pricing 1: 1=0.1, 10=0.015, 50=0.0088, 100=0.0073, 500=0.00488, 1000=0.00417, 5000=0.00297 (USD); Case/Package: 0402; Case Code (Imperial): 0402; Case Code (Metric): 1005; Contact Plating: Tin,Matte; Min Operating Temperature: -55°C; Max Operating Temperature: 155°C; Tolerance: 1%; Packaging: Tape and Reel; Number of Terminations: 2; Termination: SMD/SMT; Voltage Rating (DC): 50V; Features: Moisture Resistant; Series: RC; Construction: Rectangular; Length: 1mm; Width: 0.5mm; Height: 0.016inch; Depth: 0.5mm; Military Standard: Not; Lead Free: Lead Free; RoHS Compliant: Yes; ComponentLink1URL: https://datasheet.ciiva.com/17423/pyu-rc0402-51-rohs-l-6-r-17423990.pdf?src-supplier=Future+Electronics; ComponentLink1Description: https://datasheet.ciiva.com/17423/pyu-rc0402-51-rohs-l-6-r-17423990.pdf?src-supplier=Future+Electronics; ComponentLink2URL: https://datasheet.ciiva.com/15189/getdatasheetpartid-327833-15189354.pdf?src-supplier=Verical; ComponentLink2Description: https://datasheet.ciiva.com/15189/getdatasheetpartid-327833-15189354.pdf?src-supplier=Verical; Supplier Part Number 1: YAG2977CT-ND
footprint RESC0402(1005)_L (Chip Resistor, Body 1.0x0.5mm, IPC High Density)
simulation model RESISTOR (Resistor)
footprint RESC0402(1005)_M (Chip Resistor, Body 1.0x0.5mm, IPC Low Density)
footprint RESC0402(1005)_N (Chip Resistor, Body 1.0x0.5mm, IPC Medium Density)
pins: 1, 2

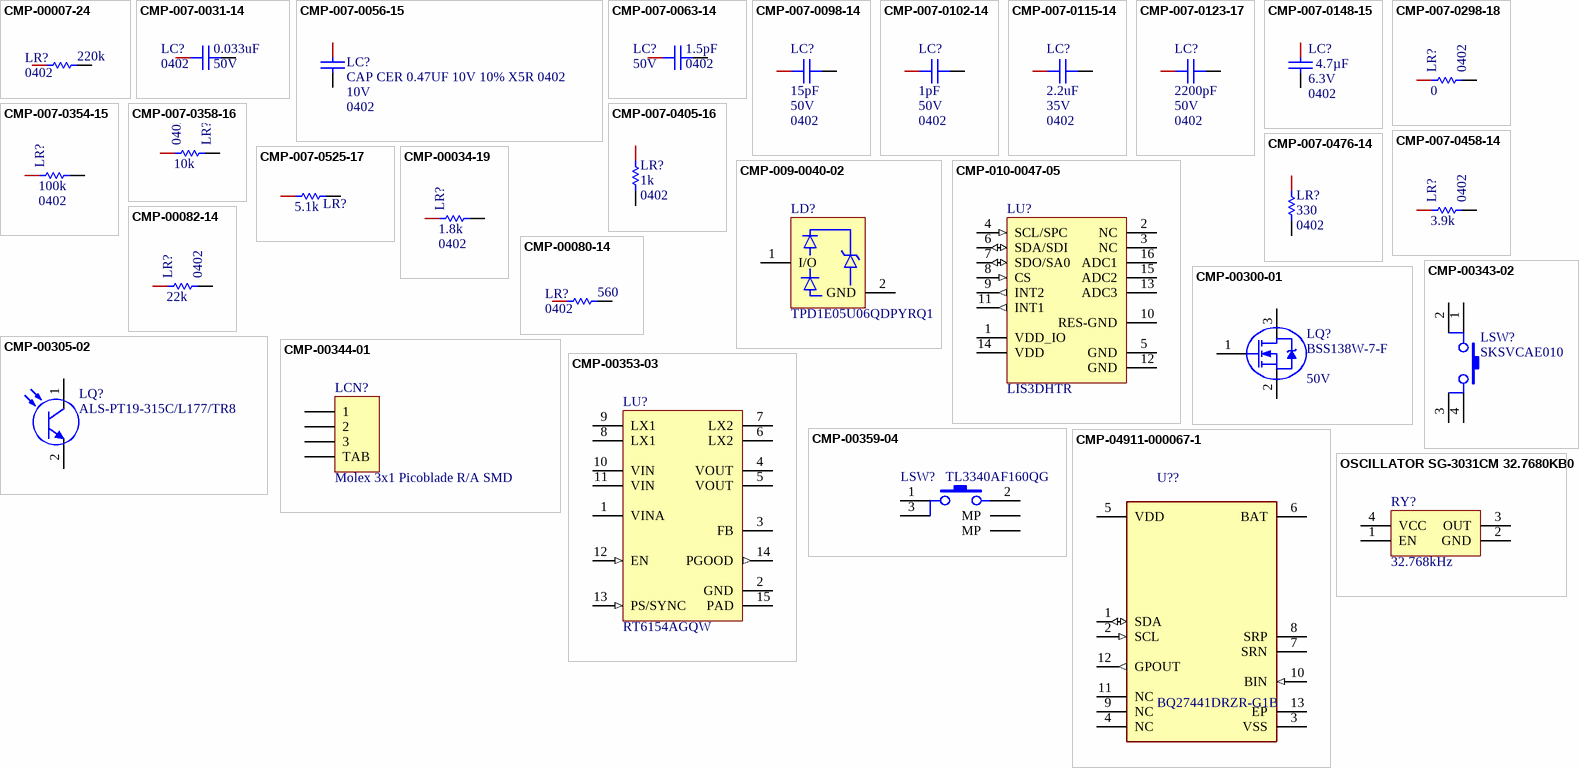
[diagram p1: symbols CMP-00007-24 to OSCILLATOR SG-3031CM 32.7680KB0]

## CMP-00007-24
designator LR?, comment Package (Imperial): 0402  (hidden comment: 220K)
RES SMD 220K OHM 1% 1/10W 0402; Package (Metric): 1005; Max Power Dissipation: 100mW; Temperature Coefficient: 100ppm/°C; Voltage Rating: 50V; Power: 63mW; Lead Free: Lead Free; Termination: SMD/SMT; Resistance: 220k; Min Operating Temperature: -55°C; Features: Automotive AEC-Q200; Contact Plating: Tin; Width: 500µm; Package Quantity: 1; Mount: Surface Mount; Max Operating Temperature: 155°C; Tolerance: 1%; Composition: Thick Film; Power Rating: 100mW; Weight: 2.8E-05oz; REACH SVHC: No SVHC; Depth: 0.5mm; Radiation Hardening: No; Packaging: Tape and Reel; Voltage Rating (DC): 50V; Length: 1mm; Number of Terminations: 2; Height: 350µm; Military Standard: Not
simulation model RESISTOR (Resistor)
footprint RESC0402(1005)_L (Chip Resistor, Body 1.0x0.5mm, IPC High Density)
footprint RESC0402(1005)_M (Chip Resistor, Body 1.0x0.5mm, IPC Low Density)
footprint RESC0402(1005)_N (Chip Resistor, Body 1.0x0.5mm, IPC Medium Density)
pins: 1, 2

## CMP-007-0031-14
designator LC?, comment 0.033uF  Voltage (Rated): 50V  Package (Imperial): 0402
CAP CER 0.033UF 50V 10% X7R 0402; Package (Metric): 1005; Capacitance: 33nF; Dielectric Material: Ceramic; Mounting Type: SMD; Tolerance: 10%; Temperature Coefficient: X7R
footprint CAPC0402(1005)_L (Chip Capacitor, Body 1.0x0.5mm, Height 0.7mm, IPC High Density)
footprint CAPC0402(1005)_N (Chip Capacitor, Body 1.0x0.5mm, Height 0.7mm, IPC Medium Density)
footprint CAPC0402(1005)_M (Chip Capacitor, Body 1.0x0.5mm, Height 0.7mm, IPC Low Density)
pins: 1, 2
1 alternate drawing of the same symbol

## CMP-007-0056-15
designator LC?, comment CAP CER 0.47UF 10V 10% X5R 0402  Voltage (Rated): 10V  Package (Imperial): 0402  (no BOM)
0.47 µF ±10% 10V Ceramic Capacitor X7S 0402 (1005 Metric); Capacitance: 470nF; Package (Metric): 1005; Temperature (Min): -55°C; Temperature (Max): 125°C; Width: 500µm; Temperature Coefficient: X7S; Mounting Type: SMD; Height: 600µm; Length: 1mm; Dielectric Material: Ceramic; Tolerance: 10%
footprint CAPC0402(1005)_N (Chip Capacitor, Body 1.0x0.5mm, Height 0.7mm, IPC Medium Density)
footprint CAPC0402(1005)_M (Chip Capacitor, Body 1.0x0.5mm, Height 0.7mm, IPC Low Density)
footprint CAPC0402(1005)_L (Chip Capacitor, Body 1.0x0.5mm, Height 0.7mm, IPC High Density)
pins: 1, 2

## CMP-007-0063-14
designator LC?, comment 1.5pF  Voltage (Rated): 50V  Package (Imperial): 0402
CAP CER 1.5PF 50V NP0 0402; Tolerance: 5%; Temperature Coefficient: C0G, NP0; Dielectric Material: Ceramic; Package (Metric): 1005; Mounting Type: SMD; Capacitance: 1.5pF
footprint CAPC0402(1005)_N (Chip Capacitor, Body 1.0x0.5mm, Height 0.7mm, IPC Medium Density)
footprint CAPC0402(1005)_M (Chip Capacitor, Body 1.0x0.5mm, Height 0.7mm, IPC Low Density)
footprint CAPC0402(1005)_L (Chip Capacitor, Body 1.0x0.5mm, Height 0.7mm, IPC High Density)
pins: 1, 2
1 alternate drawing of the same symbol

## CMP-007-0098-14
designator LC?, comment 15pF  Voltage (Rated): 50V  Package (Imperial): 0402
CAP CER 15PF 50V C0G/NP0 0402; Temperature Coefficient: C0G, NP0; Package (Metric): 1005; Tolerance: 5%; Dielectric Material: Ceramic; Mounting Type: SMD; Capacitance: 15pF
footprint CAPC0402(1005)_N (Chip Capacitor, Body 1.0x0.5mm, Height 0.7mm, IPC Medium Density)
footprint CAPC0402(1005)_L (Chip Capacitor, Body 1.0x0.5mm, Height 0.7mm, IPC High Density)
footprint CAPC0402(1005)_M (Chip Capacitor, Body 1.0x0.5mm, Height 0.7mm, IPC Low Density)
pins: 1, 2
1 alternate drawing of the same symbol

## CMP-007-0102-14
designator LC?, comment 1pF  Voltage (Rated): 50V  Package (Imperial): 0402
CAP CER 1PF 50V NP0 0402; Temperature Coefficient: C0G, NP0; Tolerance: 5%; Dielectric Material: Ceramic; Package (Metric): 1005; Mounting Type: SMD; Capacitance: 1pF
footprint CAPC0402(1005)_L (Chip Capacitor, Body 1.0x0.5mm, Height 0.7mm, IPC High Density)
footprint CAPC0402(1005)_M (Chip Capacitor, Body 1.0x0.5mm, Height 0.7mm, IPC Low Density)
footprint CAPC0402(1005)_N (Chip Capacitor, Body 1.0x0.5mm, Height 0.7mm, IPC Medium Density)
pins: 1, 2
1 alternate drawing of the same symbol

## CMP-007-0115-14
designator LC?, comment 2.2uF  Voltage (Rated): 35V  Package (Imperial): 0402
CAP CER 2.2UF 35V 10% X5R 0402; Capacitance: 2.2µF; Dielectric Material: Ceramic; Package (Metric): 1005; Tolerance: 10%; Temperature Coefficient: X5R; Mounting Type: SMD
footprint CAPC0402(1005)_N (Chip Capacitor, Body 1.0x0.5mm, Height 0.7mm, IPC Medium Density)
footprint CAPC0402(1005)_L (Chip Capacitor, Body 1.0x0.5mm, Height 0.7mm, IPC High Density)
footprint CAPC0402(1005)_M (Chip Capacitor, Body 1.0x0.5mm, Height 0.7mm, IPC Low Density)
pins: 1, 2
1 alternate drawing of the same symbol

## CMP-007-0123-17
designator LC?, comment 2200pF  Voltage (Rated): 50V  Package (Imperial): 0402
CAP CER 2200PF 50V 10% X7R 0402; Capacitance: 2.2nF; Dielectric Material: Ceramic; Package (Metric): 1005; Tolerance: 10%; Temperature Coefficient: X7R; Mounting Type: SMD
footprint CAPC0402(1005)_L (Chip Capacitor, Body 1.0x0.5mm, Height 0.7mm, IPC High Density)
footprint CAPC0402(1005)_M (Chip Capacitor, Body 1.0x0.5mm, Height 0.7mm, IPC Low Density)
footprint CAPC0402(1005)_N (Chip Capacitor, Body 1.0x0.5mm, Height 0.7mm, IPC Medium Density)
pins: 1, 2
1 alternate drawing of the same symbol

## CMP-007-0148-15
designator LC?, comment Package (Imperial): 0402  Voltage (Rated): 6.3V  Capacitance: 4.7µF  (hidden comment: 4.7uF)
CAP CER 4.7UF 6.3V 10% X5R 0402; Tolerance: 20%; Package (Metric): 1005; Dielectric Material: Ceramic; Mounting Type: SMD; Temperature Coefficient: X5R
footprint CAPC0402(1005)_L (Chip Capacitor, Body 1.0x0.5mm, Height 0.7mm, IPC High Density)
footprint MTK-0402-CAPC
footprint CAPC0402(1005)_N (Chip Capacitor, Body 1.0x0.5mm, Height 0.7mm, IPC Medium Density)
footprint CAPC0402(1005)_M (Chip Capacitor, Body 1.0x0.5mm, Height 0.7mm, IPC Low Density)
pins: 1, 2

## CMP-007-0298-18
designator LR?, comment Package (Imperial): 0402  Resistance: 0  (hidden comment: RES 0 OHM JUMPER 1/16W 0402)  (no BOM)
0 Ohms Jumper Chip Resistor 0402 (1005 Metric) Automotive AEC-Q200 Thick Film; Manufacturer: Stackpole Electronics Inc; Manufacturer Part Number: RMCF0402ZT0R00; Package (Metric): 1005; Power: 63mW; Tolerance: 0%; Termination: SMD/SMT; Operating Temperature: -55°C ~ 155°C; Height: 400µm; Length: 1mm
footprint RESC0402(1005)_L (Chip Resistor, Body 1.0x0.5mm, IPC High Density)
pins: 1, 2

## CMP-007-0354-15
designator LR?, comment value 100k  Case Code (Imperial): 0402  (hidden comment: RES 100K OHM 1% 1/16W 0402)
±1% 0.063W, 1/16W Chip Resistor 0402 (1005 Metric) Moisture Resistant Thick Film; Manufacturer: YAGEO; Manufacturer Part Number: RC0402FR-07100KL; Max Power Dissipation: 63mW; Temperature Coefficient: 100ppm/°C; Voltage Rating: 50V; Case/Package: 0402; Construction: Rectangular; Depth: 0.5mm; Features: Moisture Resistant; Height: 0.016inch; Lead Free: Lead Free; Length: 0.039inch; Max Operating Temperature: 155°C; Military Standard: Not; Min Operating Temperature: -55°C; Power Rating: 63mW; Reach SVHC Compliant: No; Resistance Tolerance: 1%; Resistor Type: Thick Film; RoHS Compliant: Yes; Series: RC; Termination: SMD/SMT; Tolerance: 1%; Width: 0.02inch
footprint RESC0402(1005)_L (Chip Resistor, Body 1.0x0.5mm, IPC High Density)
pins: 1, 2

## CMP-007-0358-16
designator LR?, comment Package (Imperial): 0402  Resistance: 10k  (hidden comment: RES SMD 10K OHM 1% 1/16W 0402)  (no BOM)
10 kOhms ±1% 0.063W, 1/16W Chip Resistor 0402 (1005 Metric) Thin Film; Package (Metric): 1005; Power: 63mW; Length: 1mm; Max Operating Temperature: 155°C; Termination: SMD/SMT; Width: 500µm; Min Operating Temperature: -55°C; Tolerance: 1%; Height: 400µm
simulation model RESISTOR (Resistor)
footprint RESC0402(1005)_L (Chip Resistor, Body 1.0x0.5mm, IPC High Density)
footprint RESC0402(1005)_N (Chip Resistor, Body 1.0x0.5mm, IPC Medium Density)
footprint RESC0402(1005)_M (Chip Resistor, Body 1.0x0.5mm, IPC Low Density)
pins: 1, 2

## CMP-007-0405-16
designator LR?, comment Resistance: 1k  Package (Imperial): 0402  (hidden comment: RES SMD 1K OHM 1% 1/16W 0402)
1k ±1% 0.063W, 1/16W Chip Resistor 0402 (1005 Metric) Moisture Resistant Thick FilmRES 1K OHM 1% 1/16W 0402; Manufacturer: Yageo; Manufacturer Part Number: RC0402FR-071KL; Power: 63mW; Package (Metric): 1005; Temperature Coefficient: 100ppm/°C; Supplier Part Number: 311-1.00KLRCT-ND; Supplier: Digi-Key; Height: 400µm; Termination: SMD/SMT; Composition: Thick Film; Width: 500µm; Tolerance: 1%
footprint RESC0402(1005)_L (Chip Resistor, Body 1.0x0.5mm, IPC High Density)
footprint RESC0402(1005)_N (Chip Resistor, Body 1.0x0.5mm, IPC Medium Density)
footprint RESC0402(1005)_M (Chip Resistor, Body 1.0x0.5mm, IPC Low Density)
pins: 1, 2

## CMP-007-0458-14
designator LR?, comment Package (Imperial): 0402  (hidden comment: 3.9K)  (no BOM)
RES 3.9K OHM 1% 1/16W 0402; Power: 63mW; Temperature Coefficient: ±100ppm/°C; Package (Metric): 1005; Operating Temperature: -55°C ~ 155°C; Termination: SMD/SMT; Height: 400µm; Resistance: 3.9k; Tolerance: 1%; Length: 1mm
simulation model RESISTOR (Resistor)
footprint RESC0402(1005)_L (Chip Resistor, Body 1.0x0.5mm, IPC High Density)
footprint RESC0402(1005)_N (Chip Resistor, Body 1.0x0.5mm, IPC Medium Density)
footprint RESC0402(1005)_M (Chip Resistor, Body 1.0x0.5mm, IPC Low Density)
pins: 1, 2

## CMP-007-0476-14
designator LR?, comment Resistance: 330  Package (Imperial): 0402  (hidden comment: RES SMD 330 OHM 1% 1/16W 0402)
330 Ohms ±1% 0.063W, 1/16W Chip Resistor 0402 (1005 Metric) Automotive AEC-Q200 Thick Film; Manufacturer Part Number: RC0402FR-07330RL; Power: 63mW; Temperature Coefficient: ±100ppm/°C; Package (Metric): 1005; Operating Temperature: -55°C ~ 155°C; Tolerance: 1%; Termination: SMD/SMT; Height: 400µm; Length: 1mm
footprint RESC0402(1005)_L (Chip Resistor, Body 1.0x0.5mm, IPC High Density)
pins: 1, 2

## CMP-007-0525-17
designator LR?, comment Resistance: 5.1k  (hidden comment: RES SMD 5.1K OHM 1% 1/10W 0402)
5.1 kOhms ±1% 0.1W, 1/10W Chip Resistor 0402 (1005 Metric) Automotive AEC-Q200 Thick Film; Manufacturer: Panasonic Electronic Components; Manufacturer Part Number: ERJ-2RKF5101X; Package (Imperial): 0402; Max Power Dissipation: 100mW; Voltage Rating (DC): 50V; Power: 63mW; Temperature Coefficient: 100ppm/°C; Termination: SMD/SMT; Lead Free: Lead Free; Mount: Surface Mount; Length: 1mm; Width: 500µm; Min Operating Temperature: -55°C; Contact Plating: Tin; Weight: 2.8E-05oz; Voltage Rating: 50V; Height: 350µm; Depth: 0.5mm; Military Standard: Not; Composition: Thick Film; Power Rating: 100mW; Tolerance: 1%; Max Operating Temperature: 155°C; REACH SVHC: No SVHC
footprint RESC0402(1005)_L (Chip Resistor, Body 1.0x0.5mm, IPC High Density)
pins: 1, 2

## CMP-009-0040-02
designator LD?, comment TPD1E05U06QDPYRQ1
TVS DIODE 5.5V 14V 2X1SON; Manufacturer: Texas Instruments; Directionality: UNI-DIRECTIONAL!; Interface: LVDS,USB,Ethernet,HDMI; Max Power: 30W; Number of Channels: 1; RoHS Compliant: Yes; Manufacturer Part Number: TPD1E05U06QDPYRQ1; Lead Free: Lead Free; Height: 0.45mm; Max Operating Temperature: 125°C; Min Operating Temperature: -40°C
footprint FP-DPY0002A-MFG
pins: 1 I/O, 2 GND

## CMP-010-0047-05
designator LU?, comment LIS3DHTR  (no BOM)
3-Axis Accelerometer; Manufacturer: STMicro; MPN: LIS3DSH; Resolution: 16b; Min Supply Voltage: 1.71V; Bandwidth: 5kHz; Interface: I2C,SPI; Max Supply Voltage: 3.6V; Axis: X, Y, Z; Operating Supply Current: 11uA; Operating Supply Voltage: 2.5V; Output Type: Digital; Sensor Type: 3 Axis; Packaging: Tape and Reel; Width: 3mm; Min Supply Voltage (DC): 1.71V; Radiation Hardening: No; Max Operating Temperature: 85°C; Height: 1mm; Length: 3mm; Max Supply Voltage (DC): 3.6V; Min Operating Temperature: -40°C; RoHS Compliant: Yes; REACH SVHC: No SVHC; Contact Plating: Gold; Number of Pins: 16; Pin Count: 16; Package Quantity: 1; Case/Package: LGA; Component Name: LIS3DHTR; Series: -; Depth: 3mm; Lead Free: Lead Free
footprint LGA16 (LGA-16 3x3x1.0mm Land Grid Array)
pins: 1 VDD_IO (power), 2 NC (power), 3 NC, 4 SCL/SPC (in), 5 GND (power), 6 SDA/SDI (io), 7 SDO/SA0 (io), 8 CS (in), 9 INT2 (out), 10 RES-GND, 11 INT1 (out), 12 GND (power), 13 ADC3, 14 VDD (power), 15 ADC2, 16 ADC1 (power)

## CMP-00034-19
designator LR?, comment value 1.8k  Case Code (Imperial): 0402  (hidden comment: RES SMD 1.8K OHM 0.1% 1/16W 0402)
1.8 kOhms ±0.1% 0.063W, 1/16W Chip Resistor 0402 (1005 Metric) Automotive AEC-Q200 Thin Film; Manufacturer: Panasonic Electronic Components; Manufacturer Part Number: ERA-2AEB182X; Temperature Coefficient: 25ppm/°C; Max Power Dissipation: 63mW; Voltage Rating: 50V; Voltage Rating (DC): 25V; Min Operating Temperature: -55°C; Max Operating Temperature: 155°C; Length: 0.039inch; Tolerance: 0.1%; Width: 0.02inch; Height: 0.016inch; Termination: SMD/SMT; Case/Package: 0402; Construction: Rectangular; Contact Plating: Tin; Depth: 0.5mm; Lead Free: Lead Free; Mounting Technology: Surface Mount; Power Rating: 63mW; Reach SVHC Compliant: Unknown; Resistance Tolerance: 0.1%; Resistor Type: Thin Film; RoHS Compliant: Yes; Series: ERA-2A
footprint RESC0402(1005)_L (Chip Resistor, Body 1.0x0.5mm, IPC High Density)
simulation model RESISTOR (Resistor)
footprint RESC0402(1005)_M (Chip Resistor, Body 1.0x0.5mm, IPC Low Density)
footprint RESC0402(1005)_N (Chip Resistor, Body 1.0x0.5mm, IPC Medium Density)
pins: 1, 2

## CMP-00080-14
designator LR?, comment Package (Imperial): 0402  (hidden comment: 560)
RES SMD 560 OHM 1% 1/16W 0402; Power: 63mW; Package (Metric): 1005; Temperature Coefficient: 100ppm/°C; Resistance: 560; Height: 400µm; Length: 1mm; Tolerance: 1%; Termination: SMD/SMT
simulation model RESISTOR (Resistor)
footprint RESC0402(1005)_M (Chip Resistor, Body 1.0x0.5mm, IPC Low Density)
footprint RESC0402(1005)_N (Chip Resistor, Body 1.0x0.5mm, IPC Medium Density)
footprint RESC0402(1005)_L (Chip Resistor, Body 1.0x0.5mm, IPC High Density)
pins: 1, 2

## CMP-00082-14
designator LR?, comment Package (Imperial): 0402  (hidden comment: 22K)
RES SMD 22K OHM 1% 1/16W 0402; Package (Metric): 1005; Power: 63mW; Length: 1mm; Resistance: 22k; Termination: SMD/SMT; Height: 400µm; Tolerance: 1%
simulation model RESISTOR (Resistor)
footprint RESC0402(1005)_N (Chip Resistor, Body 1.0x0.5mm, IPC Medium Density)
footprint RESC0402(1005)_M (Chip Resistor, Body 1.0x0.5mm, IPC Low Density)
footprint RESC0402(1005)_L (Chip Resistor, Body 1.0x0.5mm, IPC High Density)
pins: 1, 2

## CMP-00300-01
designator LQ?, comment BSS138W-7-F  Voltage Rating (DC): 50V
DIODES INC. - BSS138W-7-F. - BSS FAMILY SOT323 T&R 3K ROHS COMPLIANT: YES; Manufacturer 1: Diodes Incorporated; Power: 200mW; Current Rating: 200mA; Number of Channels: 1; Drain to Source Breakdown Voltage: 75V; Element Configuration: Single; Turn-On Delay Time: 20ns; Gate to Source Voltage (Vgs): 20V; Threshold Voltage: 1.2V; Input Capacitance: 50pF; On-State Resistance: 3.5R; Polarity: N-CHANNEL; Drain to Source Resistance: 1.4R; Voltage: 50V; Manufacturer Part Number 1: BSS138W-7-F; Drain to Source Voltage (Vdss): 50V; Number of Elements: 1; Lead Free: Lead Free; Min Operating Temperature: -55°C; Max Operating Temperature: 150°C; Nominal Vgs: 1.2V; Packaging: Tape and Reel; Drain-source On Resistance-Max: 3.5R; Width: 1.35mm; Termination: SMD/SMT; Rds On Max: 3.5R; Height: 1mm; REACH SVHC: No SVHC; Package Quantity: 3000; Case/Package: SOT-323; Contact Plating: Tin,Matte; RoHS Compliant: Yes; Length: 2.2mm; Number of Pins: 3; Mount: Surface Mount; Weight: 0.000212oz; Turn-Off Delay Time: 20ns; Series: -; Dual Supply Voltage: 50V; Max Power Dissipation: 200mW; Continuous Drain Current (ID): 200mA; Supplier 1: Digi Key; Supplier Part Number 1: BSS138W-FDICT-ND
footprint DIOD-SOT323-3_V (SOT323, 3-Leads, Body 2.2x1.35mm, Pitch 0.65mm)
pins: 1 G, 2 S, 3 D